# Altium schematic symbol library COMBIPLAST_CP-23-38.Schlib: 1 symbol
Pins are listed as number, name and electrical type; pins without a type are passive.

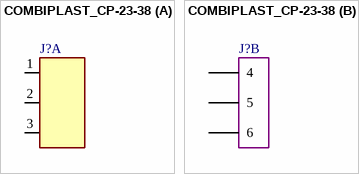
[diagram p0: symbol COMBIPLAST_CP-23-38]

## COMBIPLAST_CP-23-38
designator J?  (value not drawn)
part A pins: 1, 2, 3
part B pins: 4, 5, 6